# EAGLE library part USB-C-SMD (library ARTMEGA)
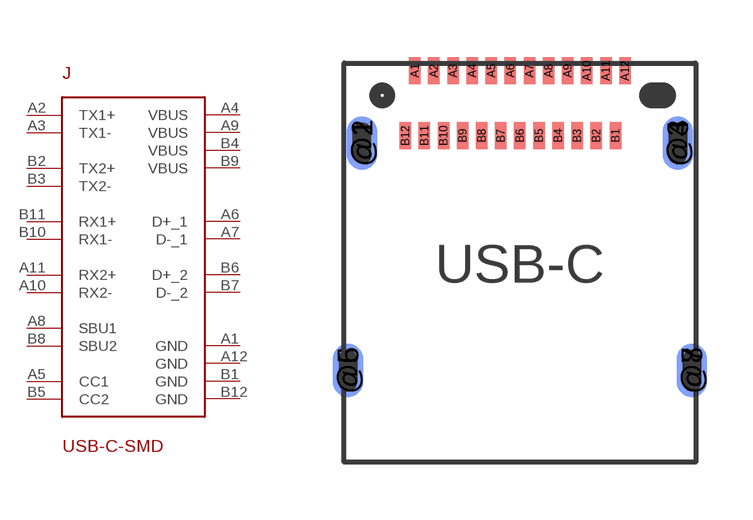
[diagram p1: symbol with the pads of USB3.1-C-SMD; footprint USB3.1-C-SMD]

Designator prefix J

## USB-C-SMD  [USB3.1-C-SMD]
A1  GND
A2  TX1+
A3  TX1-
A4  VBUS
A5  CC1
A6  D+_1
A7  D-_1
A8  SBU1
A9  VBUS
A10  RX2-
A11  RX2+
A12  GND
B1  GND
B2  TX2+
B3  TX2-
B4  VBUS
B5  CC2
B6  D+_2
B7  D-_2
B8  SBU2
B9  VBUS
B10  RX1-
B11  RX1+
B12  GND

## Footprint USB3.1-C-SMD (pad centres in mm)
smd 0.8 x 1.4: @1 -4.13,-1.25; @3 4.13,-1.25; @5 -4.5,-7.2; @7 4.5,-7.2
smd 0.8 x 1.4 bottom: @2 -4.13,-1.25; @4 4.13,-1.25; @6 -4.5,-7.2; @8 4.5,-7.2
smd 0.3 x 0.7: A1 -2.75,0.65; A2 -2.25,0.65; A3 -1.75,0.65; A4 -1.25,0.65; A5 -0.75,0.65; A6 -0.25,0.65; A7 0.25,0.65; A8 0.75,0.65; A9 1.25,0.65; A10 1.75,0.65; A11 2.25,0.65; A12 2.75,0.65; B1 2.5,-1.05; B2 2,-1.05; B3 1.5,-1.05; B4 1,-1.05; B5 0.5,-1.05; B6 0,-1.05; B7 -0.5,-1.05; B8 -1,-1.05; B9 -1.5,-1.05; B10 -2,-1.05; B11 -2.5,-1.05; B12 -3,-1.05